# EAGLE library part CAPACITOR-ARRAY-4C (library magzor)
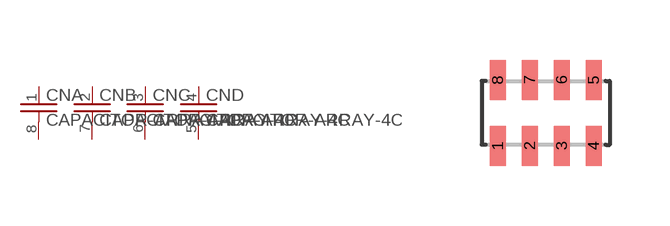
[diagram p10: symbol with the pads of CN-CKCA43; footprint CN-CKCA43]

Designator prefix CN; gates A=CAPACITOR-PAD-VISIBLE B=CAPACITOR-PAD-VISIBLE C=CAPACITOR-PAD-VISIBLE D=CAPACITOR-PAD-VISIBLE

## CAPACITOR-ARRAY-4C-CKCA43  [CN-CKCA43]
1  A:1  pas
2  B:1  pas
3  C:1  pas
4  D:1  pas
5  D:2  pas
6  C:2  pas
7  B:2  pas
8  A:2  pas

## Footprint CN-CKCA43 (pad centres in mm)
capacitor array (4X C) 3.2mm x 1.6mm
smd 0.4 x 1: 1 -1.2,-0.825; 2 -0.4,-0.825; 3 0.4,-0.825; 4 1.2,-0.825; 5 1.2,0.825; 6 0.4,0.825; 7 -0.4,0.825; 8 -1.2,0.825